# Altium footprint library 35ZLH100MEFC6.3X11.PcbLib: 1 footprints
Each footprint in its own frame and in the unit in brackets; x right, y up, seen from the top. Pads: shape width x height; smd on the part's side, far side on the other; paste and mask are expansions set on the pad; w line width, h text height; cw(c..) or ccw(c..) is an arc to the next point about the centre after c.
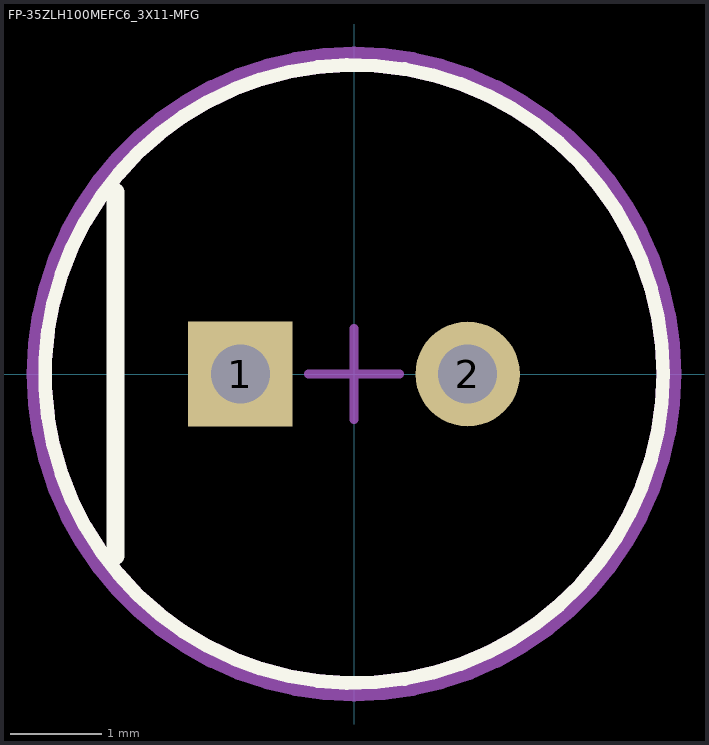
[diagram p0: the footprint, top view; thin cyan lines are the x and y axes]

## FP-35ZLH100MEFC6_3X11-MFG [mm]
pads (2):
  rect 1.15x1.15 hole 0.65 paste-2539.97 mask+0: 1(-1.25,0)
  round 1.15 hole 0.65 paste-2539.97 mask+0: 2(1.25,0)
Top Overlay:
  circle w0.15: c0,0 r3.4
  lines w0.2: -2.625,-2 -2.625,2
Top Assembly:
  text ".Designator" at 0,0.188 h1
Top 3D Body:
  circle w0.15: c0,0 r3.4
Top Courtyard:
  lines w0.2: -3.5,0 cw(c0,0) 3.5,0 cw(c0,0) -3.5,0
Top Component Center:
  lines w0.1: -0.5,0 0.5,0 ; 0,-0.5 0,0.5
3D body "Cap_Rubycon_35ZLH100MEFC6_3X11_eec.STEP": height 0.25, standoff 0, extent -3.5,-3.5 3.5,3.5